# Altium schematic symbol library PORT_GACHE.SchLib: 2 symbols
Pins are listed as number, name and electrical type; pins without a type are passive.

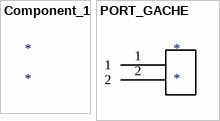
[diagram p0: symbols Component_1 to PORT_GACHE]

## Component_1
designator *

## PORT_GACHE
designator *
pins: 1, 2